# EAGLE library part EPF10K30-BGA356 (library altera)
EPF10K30 FLEX 10K family
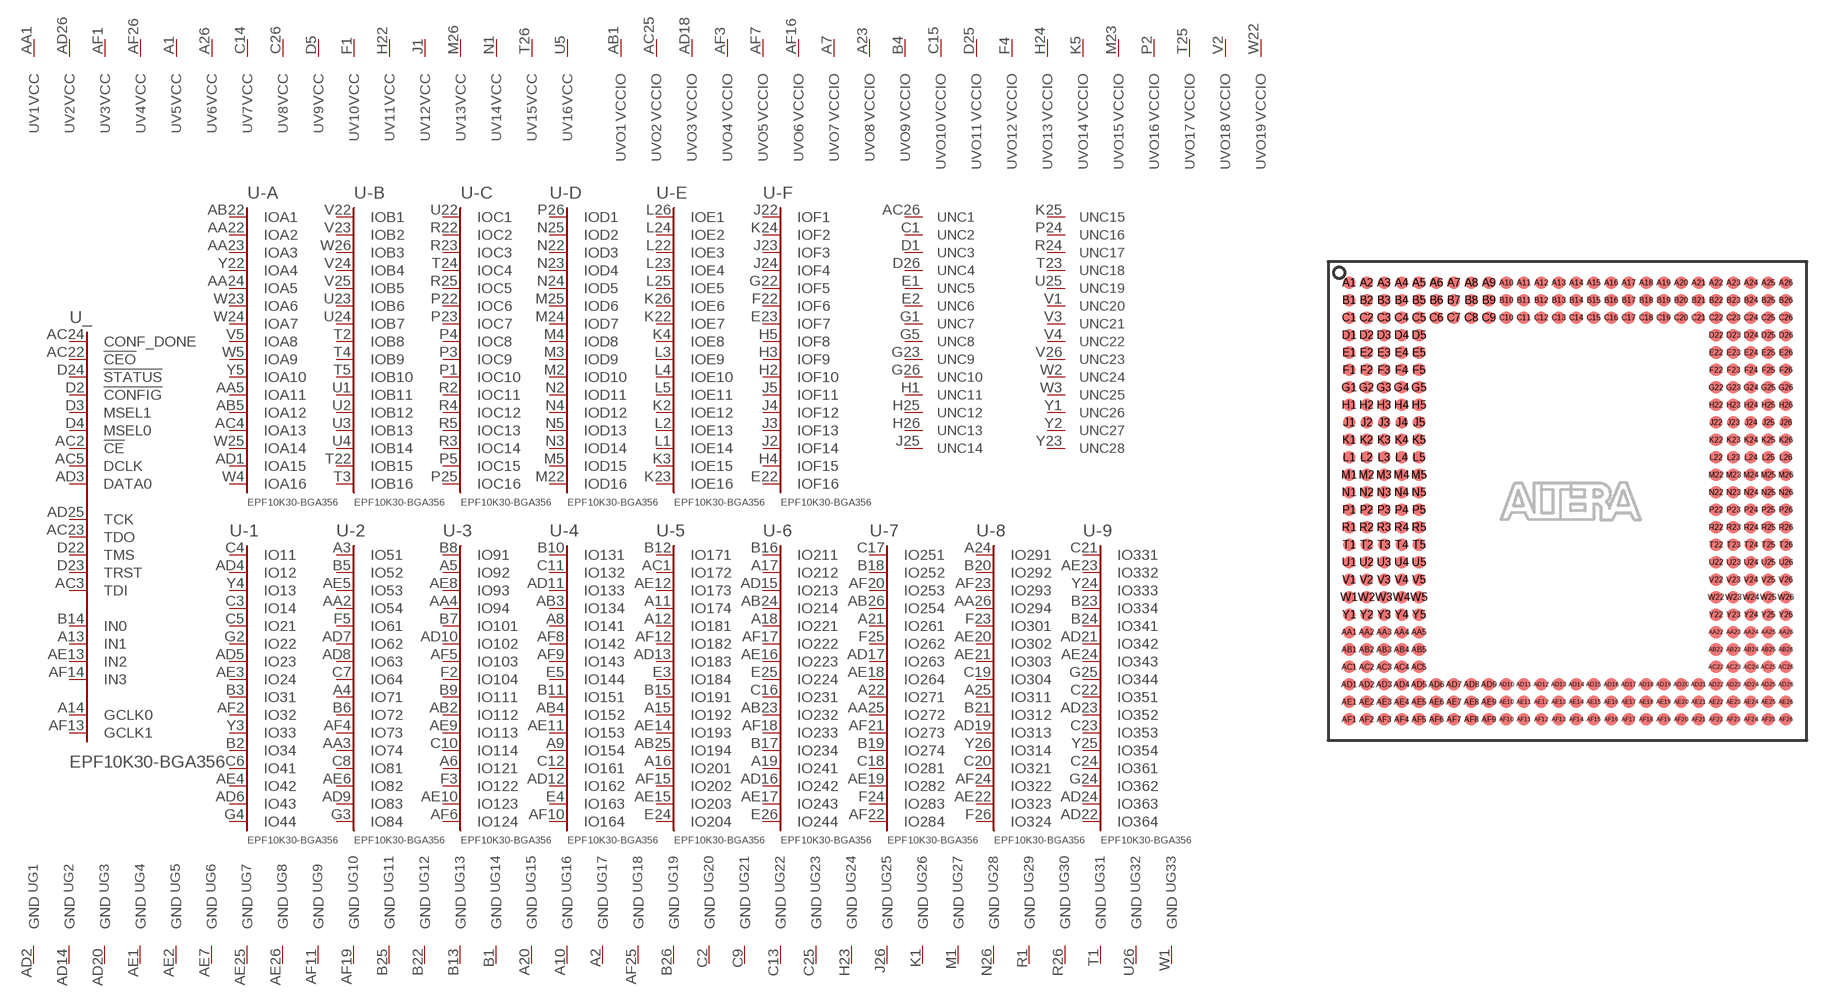
[diagram p56: symbol with the pads of BGA356; footprint BGA356]

Designator prefix U; gates _=100R240C -A=A16 -B=B16 -C=C16 -D=D16 -E=E16 -1=IO44 -2=IO84 -3=IO124 -4=IO164 -5=IO204 -6=IO244 -7=IO284 -8=IO324 -9=IO364 -F=F16 G1=GNDINT G2=GNDINT G3=GNDINT G4=GNDINT G5=GNDINT G6=GNDINT G7=GNDINT G8=GNDINT G9=GNDINT G10=GNDINT G11=GNDINT G12=GNDINT G13=GNDINT G14=GNDINT G15=GNDINT G16=GNDINT G17=GNDINT G18=GNDINT G19=GNDINT G20=GNDINT G21=GNDINT G22=GNDINT G23=GNDINT G24=GNDINT G25=GNDINT G26=GNDINT G27=GNDINT G28=GNDINT G29=GNDINT G30=GNDINT G31=GNDINT G32=GNDINT G33=GNDINT NC1=NC NC2=NC NC3=NC NC4=NC NC5=NC NC6=NC NC7=NC NC8=NC NC9=NC NC10=NC NC11=NC NC12=NC NC13=NC NC14=NC NC15=NC NC16=NC NC17=NC NC18=NC NC19=NC NC20=NC NC21=NC NC22=NC NC23=NC NC24=NC NC25=NC NC26=NC NC27=NC NC28=NC V1=VCCINT V2=VCCINT V3=VCCINT V4=VCCINT V5=VCCINT V6=VCCINT V7=VCCINT V8=VCCINT V9=VCCINT V10=VCCINT V11=VCCINT V12=VCCINT V13=VCCINT V14=VCCINT V15=VCCINT V16=VCCINT VO1=VCCIO VO2=VCCIO VO3=VCCIO VO4=VCCIO VO5=VCCIO VO6=VCCIO VO7=VCCIO VO8=VCCIO VO9=VCCIO VO10=VCCIO VO11=VCCIO VO12=VCCIO VO13=VCCIO VO14=VCCIO VO15=VCCIO VO16=VCCIO VO17=VCCIO VO18=VCCIO VO19=VCCIO

## EPF10K30-BGA356  [BGA356]
A1  V5:VCC  pwr
A2  G17:GND  pwr
A3  -2:IO51
A4  -2:IO71
A5  -3:IO92
A6  -3:IO121
A7  VO7:VCCIO  pwr
A8  -4:IO141
A9  -4:IO154
A10  G16:GND  pwr
A11  -5:IO174
A12  -5:IO181
A13  _:IN1  in
A14  _:GCLK0  in
A15  -5:IO192
A16  -5:IO201
A17  -6:IO212
A18  -6:IO221
A19  -6:IO241
A20  G15:GND  pwr
A21  -7:IO261
A22  -7:IO271
A23  VO8:VCCIO  pwr
A24  -8:IO291
A25  -8:IO311
A26  V6:VCC  pwr
AA1  V1:VCC  pwr
AA2  -2:IO54
AA3  -2:IO74
AA4  -3:IO94
AA5  -A:IOA11
AA22  -A:IOA2
AA23  -A:IOA3
AA24  -A:IOA5
AA25  -7:IO272
AA26  -8:IO294
AB1  VO1:VCCIO  pwr
AB2  -3:IO112
AB3  -4:IO134
AB4  -4:IO152
AB5  -A:IOA12
AB22  -A:IOA1
AB23  -6:IO232
AB24  -6:IO214
AB25  -5:IO194
AB26  -7:IO254
AC1  -5:IO172
AC2  _:!CE!  in
AC3  _:TDI
AC4  -A:IOA13
AC5  _:DCLK  in
AC22  _:!CEO!  in
AC23  _:TDO
AC24  _:CONF_DONE  in
AC25  VO2:VCCIO  pwr
AC26  NC1:NC  nc
AD1  -A:IOA15
AD2  G1:GND  pwr
AD3  _:DATA0  in
AD4  -1:IO12
AD5  -1:IO23
AD6  -1:IO43
AD7  -2:IO62
AD8  -2:IO63
AD9  -2:IO83
AD10  -3:IO102
AD11  -4:IO133
AD12  -4:IO162
AD13  -5:IO183
AD14  G2:GND  pwr
AD15  -6:IO213
AD16  -6:IO242
AD17  -7:IO263
AD18  VO3:VCCIO  pwr
AD19  -8:IO313
AD20  G3:GND  pwr
AD21  -9:IO342
AD22  -9:IO364
AD23  -9:IO352
AD24  -9:IO363
AD25  _:TCK
AD26  V2:VCC  pwr
AE1  G4:GND  pwr
AE2  G5:GND  pwr
AE3  -1:IO24
AE4  -1:IO42
AE5  -2:IO53
AE6  -2:IO82
AE7  G6:GND  pwr
AE8  -3:IO93
AE9  -3:IO113
AE10  -3:IO123
AE11  -4:IO153
AE12  -5:IO173
AE13  _:IN2  in
AE14  -5:IO193
AE15  -5:IO203
AE16  -6:IO223
AE17  -6:IO243
AE18  -7:IO264
AE19  -7:IO282
AE20  -8:IO302
AE21  -8:IO303
AE22  -8:IO323
AE23  -9:IO332
AE24  -9:IO343
AE25  G7:GND  pwr
AE26  G8:GND  pwr
AF1  V3:VCC  pwr
AF2  -1:IO32
AF3  VO4:VCCIO  pwr
AF4  -2:IO73
AF5  -3:IO103
AF6  -3:IO124
AF7  VO5:VCCIO  pwr
AF8  -4:IO142
AF9  -4:IO143
AF10  -4:IO164
AF11  G9:GND  pwr
AF12  -5:IO182
AF13  _:GCLK1  in
AF14  _:IN3  in
AF15  -5:IO202
AF16  VO6:VCCIO  pwr
AF17  -6:IO222
AF18  -6:IO233
AF19  G10:GND  pwr
AF20  -7:IO253
AF21  -7:IO273
AF22  -7:IO284
AF23  -8:IO293
AF24  -8:IO322
AF25  G18:GND  pwr
AF26  V4:VCC  pwr
B1  G14:GND  pwr
B2  -1:IO34
B3  -1:IO31
B4  VO9:VCCIO  pwr
B5  -2:IO52
B6  -2:IO72
B7  -3:IO101
B8  -3:IO91
B9  -3:IO111
B10  -4:IO131
B11  -4:IO151
B12  -5:IO171
B13  G13:GND  pwr
B14  _:IN0  in
B15  -5:IO191
B16  -6:IO211
B17  -6:IO234
B18  -7:IO252
B19  -7:IO274
B20  -8:IO292
B21  -8:IO312
B22  G12:GND  pwr
B23  -9:IO334
B24  -9:IO341
B25  G11:GND  pwr
B26  G19:GND  pwr
C1  NC2:NC  nc
C2  G20:GND  pwr
C3  -1:IO14
C4  -1:IO11
C5  -1:IO21
C6  -1:IO41
C7  -2:IO64
C8  -2:IO81
C9  G21:GND  pwr
C10  -3:IO114
C11  -4:IO132
C12  -4:IO161
C13  G22:GND  pwr
C14  V7:VCC  pwr
C15  VO10:VCCIO  pwr
C16  -6:IO231
C17  -7:IO251
C18  -7:IO281
C19  -8:IO304
C20  -8:IO321
C21  -9:IO331
C22  -9:IO351
C23  -9:IO353
C24  -9:IO361
C25  G23:GND  pwr
C26  V8:VCC  pwr
D1  NC3:NC  nc
D2  _:!CONFIG!  in
D3  _:MSEL1  in
D4  _:MSEL0  in
D5  V9:VCC  pwr
D22  _:TMS
D23  _:TRST
D24  _:!STATUS!  in
D25  VO11:VCCIO  pwr
D26  NC4:NC  nc
E1  NC5:NC  nc
E2  NC6:NC  nc
E3  -5:IO184
E4  -4:IO163
E5  -4:IO144
E22  -F:IOF16
E23  -F:IOF7
E24  -5:IO204
E25  -6:IO224
E26  -6:IO244
F1  V10:VCC  pwr
F2  -3:IO104
F3  -3:IO122
F4  VO12:VCCIO  pwr
F5  -2:IO61
F22  -F:IOF6
F23  -8:IO301
F24  -7:IO283
F25  -7:IO262
F26  -8:IO324
G1  NC7:NC  nc
G2  -1:IO22
G3  -2:IO84
G4  -1:IO44
G5  NC8:NC  nc
G22  -F:IOF5
G23  NC9:NC  nc
G24  -9:IO362
G25  -9:IO344
G26  NC10:NC  nc
H1  NC11:NC  nc
H2  -F:IOF10
H3  -F:IOF9
H4  -F:IOF15
H5  -F:IOF8
H22  V11:VCC  pwr
H23  G24:GND  pwr
H24  VO13:VCCIO  pwr
H25  NC12:NC  nc
H26  NC13:NC  nc
J1  V12:VCC  pwr
J2  -F:IOF14
J3  -F:IOF13
J4  -F:IOF12
J5  -F:IOF11
J22  -F:IOF1
J23  -F:IOF3
J24  -F:IOF4
J25  NC14:NC  nc
J26  G25:GND  pwr
K1  G26:GND  pwr
K2  -E:IOE12
K3  -E:IOE15
K4  -E:IOE8
K5  VO14:VCCIO  pwr
K22  -E:IOE7
K23  -E:IOE16
K24  -F:IOF2
K25  NC15:NC  nc
K26  -E:IOE6
L1  -E:IOE14
L2  -E:IOE13
L3  -E:IOE9
L4  -E:IOE10
L5  -E:IOE11
L22  -E:IOE3
L23  -E:IOE4
L24  -E:IOE2
L25  -E:IOE5
L26  -E:IOE1
M1  G27:GND  pwr
M2  -D:IOD10
M3  -D:IOD9
M4  -D:IOD8
M5  -D:IOD15
M22  -D:IOD16
M23  VO15:VCCIO  pwr
M24  -D:IOD7
M25  -D:IOD6
M26  V13:VCC  pwr
N1  V14:VCC  pwr
N2  -D:IOD11
N3  -D:IOD14
N4  -D:IOD12
N5  -D:IOD13
N22  -D:IOD3
N23  -D:IOD4
N24  -D:IOD5
N25  -D:IOD2
N26  G28:GND  pwr
P1  -C:IOC10
P2  VO16:VCCIO  pwr
P3  -C:IOC9
P4  -C:IOC8
P5  -C:IOC15
P22  -C:IOC6
P23  -C:IOC7
P24  NC16:NC  nc
P25  -C:IOC16
P26  -D:IOD1
R1  G29:GND  pwr
R2  -C:IOC11
R3  -C:IOC14
R4  -C:IOC12
R5  -C:IOC13
R22  -C:IOC2
R23  -C:IOC3
R24  NC17:NC  nc
R25  -C:IOC5
R26  G30:GND  pwr
T1  G31:GND  pwr
T2  -B:IOB8
T3  -B:IOB16
T4  -B:IOB9
T5  -B:IOB10
T22  -B:IOB15
T23  NC18:NC  nc
T24  -C:IOC4
T25  VO17:VCCIO  pwr
T26  V15:VCC  pwr
U1  -B:IOB11
U2  -B:IOB12
U3  -B:IOB13
U4  -B:IOB14
U5  V16:VCC  pwr
U22  -C:IOC1
U23  -B:IOB6
U24  -B:IOB7
U25  NC19:NC  nc
U26  G32:GND  pwr
V1  NC20:NC  nc
V2  VO18:VCCIO  pwr
V3  NC21:NC  nc
V4  NC22:NC  nc
V5  -A:IOA8
V22  -B:IOB1
V23  -B:IOB2
V24  -B:IOB4
V25  -B:IOB5
V26  NC23:NC  nc
W1  G33:GND  pwr
W2  NC24:NC  nc
W3  NC25:NC  nc
W4  -A:IOA16
W5  -A:IOA9
W22  VO19:VCCIO  pwr
W23  -A:IOA6
W24  -A:IOA7
W25  -A:IOA14
W26  -B:IOB3
Y1  NC26:NC  nc
Y2  NC27:NC  nc
Y3  -1:IO33
Y4  -1:IO13
Y5  -A:IOA10
Y22  -A:IOA4
Y23  NC28:NC  nc
Y24  -9:IO333
Y25  -9:IO354
Y26  -8:IO314

## Footprint BGA356 (pad centres in mm)
Ball Grid Array
smd 0.9 x 0.9: A1 -15.875,15.875; A2 -14.605,15.875; A3 -13.335,15.875; A4 -12.065,15.875; A5 -10.795,15.875; A6 -9.525,15.875; A7 -8.255,15.875; A8 -6.985,15.875; A9 -5.715,15.875; A10 -4.445,15.875; A11 -3.175,15.875; A12 -1.905,15.875; A13 -0.635,15.875; A14 0.635,15.875; A15 1.905,15.875; A16 3.175,15.875; A17 4.445,15.875; A18 5.715,15.875; A19 6.985,15.875; A20 8.255,15.875; A21 9.525,15.875; A22 10.795,15.875; A23 12.065,15.875; A24 13.335,15.875; A25 14.605,15.875; A26 15.875,15.875; AA1 -15.875,-9.525; AA2 -14.605,-9.525; AA3 -13.335,-9.525; AA4 -12.065,-9.525; AA5 -10.795,-9.525; AA22 10.795,-9.525; AA23 12.065,-9.525; AA24 13.335,-9.525; AA25 14.605,-9.525; AA26 15.875,-9.525; AB1 -15.875,-10.795; AB2 -14.605,-10.795; AB3 -13.335,-10.795; AB4 -12.065,-10.795; AB5 -10.795,-10.795; AB22 10.795,-10.795; AB23 12.065,-10.795; AB24 13.335,-10.795; AB25 14.605,-10.795; AB26 15.875,-10.795; AC1 -15.875,-12.065; AC2 -14.605,-12.065; AC3 -13.335,-12.065; AC4 -12.065,-12.065; AC5 -10.795,-12.065; AC22 10.795,-12.065; AC23 12.065,-12.065; AC24 13.335,-12.065; AC25 14.605,-12.065; AC26 15.875,-12.065; AD1 -15.875,-13.335; AD2 -14.605,-13.335; AD3 -13.335,-13.335; AD4 -12.065,-13.335; AD5 -10.795,-13.335; AD6 -9.525,-13.335; AD7 -8.255,-13.335; AD8 -6.985,-13.335; AD9 -5.715,-13.335; AD10 -4.445,-13.335; AD11 -3.175,-13.335; AD12 -1.905,-13.335; AD13 -0.635,-13.335; AD14 0.635,-13.335; AD15 1.905,-13.335; AD16 3.175,-13.335; AD17 4.445,-13.335; AD18 5.715,-13.335; AD19 6.985,-13.335; AD20 8.255,-13.335; AD21 9.525,-13.335; AD22 10.795,-13.335; AD23 12.065,-13.335; AD24 13.335,-13.335; AD25 14.605,-13.335; AD26 15.875,-13.335; AE1 -15.875,-14.605; AE2 -14.605,-14.605; AE3 -13.335,-14.605; AE4 -12.065,-14.605; AE5 -10.795,-14.605; AE6 -9.525,-14.605; AE7 -8.255,-14.605; AE8 -6.985,-14.605; AE9 -5.715,-14.605; AE10 -4.445,-14.605; AE11 -3.175,-14.605; AE12 -1.905,-14.605; AE13 -0.635,-14.605; AE14 0.635,-14.605; AE15 1.905,-14.605; AE16 3.175,-14.605; AE17 4.445,-14.605; AE18 5.715,-14.605; AE19 6.985,-14.605; AE20 8.255,-14.605; AE21 9.525,-14.605; AE22 10.795,-14.605; AE23 12.065,-14.605; AE24 13.335,-14.605; AE25 14.605,-14.605; AE26 15.875,-14.605; AF1 -15.875,-15.875; AF2 -14.605,-15.875; AF3 -13.335,-15.875; AF4 -12.065,-15.875; AF5 -10.795,-15.875; AF6 -9.525,-15.875; AF7 -8.255,-15.875; AF8 -6.985,-15.875; AF9 -5.715,-15.875; AF10 -4.445,-15.875; AF11 -3.175,-15.875; AF12 -1.905,-15.875; AF13 -0.635,-15.875; AF14 0.635,-15.875; AF15 1.905,-15.875; AF16 3.175,-15.875; AF17 4.445,-15.875; AF18 5.715,-15.875; AF19 6.985,-15.875; AF20 8.255,-15.875; AF21 9.525,-15.875; AF22 10.795,-15.875; AF23 12.065,-15.875; AF24 13.335,-15.875; AF25 14.605,-15.875; AF26 15.875,-15.875; B1 -15.875,14.605; B2 -14.605,14.605; B3 -13.335,14.605; B4 -12.065,14.605; B5 -10.795,14.605; B6 -9.525,14.605; B7 -8.255,14.605; B8 -6.985,14.605; B9 -5.715,14.605; B10 -4.445,14.605; B11 -3.175,14.605; B12 -1.905,14.605; B13 -0.635,14.605; B14 0.635,14.605; B15 1.905,14.605; B16 3.175,14.605; B17 4.445,14.605; B18 5.715,14.605; B19 6.985,14.605; B20 8.255,14.605; B21 9.525,14.605; B22 10.795,14.605; B23 12.065,14.605; B24 13.335,14.605; B25 14.605,14.605; B26 15.875,14.605; C1 -15.875,13.335; C2 -14.605,13.335; C3 -13.335,13.335; C4 -12.065,13.335; C5 -10.795,13.335; C6 -9.525,13.335; C7 -8.255,13.335; C8 -6.985,13.335; C9 -5.715,13.335; C10 -4.445,13.335; C11 -3.175,13.335; C12 -1.905,13.335; C13 -0.635,13.335; C14 0.635,13.335; C15 1.905,13.335; C16 3.175,13.335; C17 4.445,13.335; C18 5.715,13.335; C19 6.985,13.335; C20 8.255,13.335; C21 9.525,13.335; C22 10.795,13.335; C23 12.065,13.335; C24 13.335,13.335; C25 14.605,13.335; C26 15.875,13.335; D1 -15.875,12.065; D2 -14.605,12.065; D3 -13.335,12.065; D4 -12.065,12.065; D5 -10.795,12.065; D22 10.795,12.065; D23 12.065,12.065; D24 13.335,12.065; D25 14.605,12.065; D26 15.875,12.065; E1 -15.875,10.795; E2 -14.605,10.795; E3 -13.335,10.795; E4 -12.065,10.795; E5 -10.795,10.795; E22 10.795,10.795; E23 12.065,10.795; E24 13.335,10.795; E25 14.605,10.795; E26 15.875,10.795; F1 -15.875,9.525; F2 -14.605,9.525; F3 -13.335,9.525; F4 -12.065,9.525; F5 -10.795,9.525; F22 10.795,9.525; F23 12.065,9.525; F24 13.335,9.525; F25 14.605,9.525; F26 15.875,9.525; G1 -15.875,8.255; G2 -14.605,8.255; G3 -13.335,8.255; G4 -12.065,8.255; G5 -10.795,8.255; G22 10.795,8.255; G23 12.065,8.255; G24 13.335,8.255; G25 14.605,8.255; G26 15.875,8.255; H1 -15.875,6.985; H2 -14.605,6.985; H3 -13.335,6.985; H4 -12.065,6.985; H5 -10.795,6.985; H22 10.795,6.985; H23 12.065,6.985; H24 13.335,6.985; H25 14.605,6.985; H26 15.875,6.985; J1 -15.875,5.715; J2 -14.605,5.715; J3 -13.335,5.715; J4 -12.065,5.715; J5 -10.795,5.715; J22 10.795,5.715; J23 12.065,5.715; J24 13.335,5.715; J25 14.605,5.715; J26 15.875,5.715; K1 -15.875,4.445; K2 -14.605,4.445; K3 -13.335,4.445; K4 -12.065,4.445; K5 -10.795,4.445; K22 10.795,4.445; K23 12.065,4.445; K24 13.335,4.445; K25 14.605,4.445; K26 15.875,4.445; L1 -15.875,3.175; L2 -14.605,3.175; L3 -13.335,3.175; L4 -12.065,3.175; L5 -10.795,3.175; L22 10.795,3.175; L23 12.065,3.175; L24 13.335,3.175; L25 14.605,3.175; L26 15.875,3.175; M1 -15.875,1.905; M2 -14.605,1.905; M3 -13.335,1.905; M4 -12.065,1.905; M5 -10.795,1.905; M22 10.795,1.905; M23 12.065,1.905; M24 13.335,1.905; M25 14.605,1.905; M26 15.875,1.905; N1 -15.875,0.635; N2 -14.605,0.635; N3 -13.335,0.635; N4 -12.065,0.635; N5 -10.795,0.635; N22 10.795,0.635; N23 12.065,0.635; N24 13.335,0.635; N25 14.605,0.635; N26 15.875,0.635; P1 -15.875,-0.635; P2 -14.605,-0.635; P3 -13.335,-0.635; P4 -12.065,-0.635; P5 -10.795,-0.635; P22 10.795,-0.635; P23 12.065,-0.635; P24 13.335,-0.635; P25 14.605,-0.635; P26 15.875,-0.635; R1 -15.875,-1.905; R2 -14.605,-1.905; R3 -13.335,-1.905; R4 -12.065,-1.905; R5 -10.795,-1.905; R22 10.795,-1.905; R23 12.065,-1.905; R24 13.335,-1.905; R25 14.605,-1.905; R26 15.875,-1.905; T1 -15.875,-3.175; T2 -14.605,-3.175; T3 -13.335,-3.175; T4 -12.065,-3.175; T5 -10.795,-3.175; T22 10.795,-3.175; T23 12.065,-3.175; T24 13.335,-3.175; T25 14.605,-3.175; T26 15.875,-3.175; U1 -15.875,-4.445; U2 -14.605,-4.445; U3 -13.335,-4.445; U4 -12.065,-4.445; U5 -10.795,-4.445; U22 10.795,-4.445; U23 12.065,-4.445; U24 13.335,-4.445; U25 14.605,-4.445; U26 15.875,-4.445; V1 -15.875,-5.715; V2 -14.605,-5.715; V3 -13.335,-5.715; V4 -12.065,-5.715; V5 -10.795,-5.715; V22 10.795,-5.715; V23 12.065,-5.715; V24 13.335,-5.715; V25 14.605,-5.715; V26 15.875,-5.715; W1 -15.875,-6.985; W2 -14.605,-6.985; W3 -13.335,-6.985; W4 -12.065,-6.985; W5 -10.795,-6.985; W22 10.795,-6.985; W23 12.065,-6.985; W24 13.335,-6.985; W25 14.605,-6.985; W26 15.875,-6.985; Y1 -15.875,-8.255; Y2 -14.605,-8.255; Y3 -13.335,-8.255; Y4 -12.065,-8.255; Y5 -10.795,-8.255; Y22 10.795,-8.255; Y23 12.065,-8.255; Y24 13.335,-8.255; Y25 14.605,-8.255; Y26 15.875,-8.255